# Altium schematic symbol library Passive.SchLib: 14 symbols
Pins are listed as number, name and electrical type; pins without a type are passive.

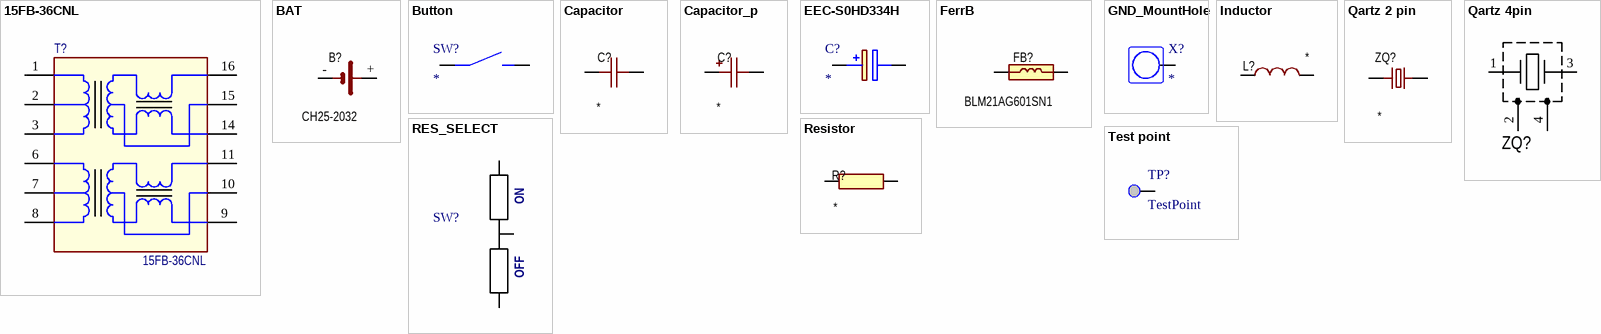
[diagram p0: symbols 15FB-36CNL to Test point]

## 15FB-36CNL
designator T?
10/100 BASE-T ETHERNET ISOLATION POE TRANSFORMER
footprint SMT-4 (10/100 BASE-T ETHERNET ISOLATION TRANSFORMER)
pins: 1 TD+, 2 CT, 3 TD-, 6 RD+, 7 CT, 8 RD-, 9 RX-, 10 CT, 11 RX+, 14 TX-, 15 CT, 16 TX+

## BAT
designator B?, comment CH25-2032
battery; Manufacturer: Comfortable Electronic; Model: CH25-2032; HelpURL: http://www.platan.ru/pdf/datasheets/comf/CH-battery-holder.pdf
footprint CH25-2032
footprint CR1220 (SMD battery holder)
footprint MS412SE-FL26E (Litium battery 4.8mm dia, 2.8mm)
pins: +, -

## Button
designator SW?
Switch Tactile OFF _ON_ Round Button; MP: any; MF: TE Connectivity; EU_RoHS_Compliance: Compliant; SnapEDA_Link: https://www.snapeda.com/parts/1571527-1/TE%20Connectivity/view-part/244428/?ref=snap; Price: None; Package: any; Availability: Unavailable; TE_purchase_URL: https://www.te.com/usa-en/product-1571527-1.html?te_bu=Cor&te_type=disp&te_campaign=seda_glo_cor-seda-global-disp-prtnr-fy19-seda-model-bom-cta_sma-317_1&elqCampaignId=32493; Value: *
footprint SW_1571527-1
pins: 1 COM, 2 COM, 3 NO, 4 NO

## Capacitor
designator C?
Capacitor; Model: *; Manufacturer: *; HelpURL: *; Package: *; Value: *
footprint C0201 (Chip Capacitor, 2-Leads, Body 0,60x0,30mm, IPC Medium Density)
footprint C0402 (Chip Capacitor, 2-Leads, Body 1,00x0,50mm, IPC Medium Density)
footprint C0603
footprint C0805
footprint C1210
footprint C1808
footprint C1206 (Chip Capacitor, 1206)
footprint C0201_octogonal (Chip Capacitor, 2-Leads, Body 0,60x0,30mm, IPC Medium Density)
pins: 1, 2

## Capacitor_p
designator C?
Capacitor_polar; Model: *; Manufacturer: *; HelpURL: *; Package: *; Value: *
footprint 6.3x11 (capacitor)
footprint 8x14 (capacitor)
footprint SIZE_B
footprint SIZE_E,D (AVX tantalum cap E, D)
footprint SMD_6.3x7.7 (aluminium)
footprint 8x14 - Horizontal (capacitor)
pins: 1, 2

## EEC-S0HD334H
designator C?
Capacitor Polarised; Manufacturer_Name: Panasonic; Manufacturer_Part_Number: EEC-S0HD334H; Datasheet Link: https://www.mouser.com/datasheet/2/315/ABC0000C84-1142239.pdf; Height: 6.5mm; Mouser Part Number: 667-EEC-S0HD334H; Mouser Price/Stock: https://www.mouser.co.uk/ProductDetail/Panasonic/EEC-S0HD334H?qs=ANJC8C65Mw7r3T%252B8s8Dhbw%3D%3D
footprint EECS0HD334H
pins: 1 +, 2 -

## FerrB
designator FB?, comment BLM21AG601SN1
Ferrite bead; Manufacturer: Murata; Model: BLM21AG601SN1; HelpURL: https://www.murata.com/en-us/api/pdfdownloadapi?cate=luNoiseSupprFilteChipFerriBead&partno=BLM21AG601SN1%23; Package: 0805
footprint FB0603
footprint FB0805
pins: 1, 2

## GND_MountHole
designator X?
Grounded Mount Hole
footprint GNDHole (GND_Hole 2.2mmx3mm)
pins: 1

## Inductor
designator L?
power inductor; Value: *
footprint B82477G4 (B82477G4 SMD power inductor)
footprint IHLP-2020BZ-01 (Inductor Vishay)
footprint IHLP-2020CZ-01 (Inductor Vishay)
footprint IHLP-1212AE-11 (Inductor Vishay)
footprint IHLP-2525BD-01 (Inductor Vishay)
footprint IHLP-3232DZ-01 (Inductor Vishay)
pins: 1, 2

## Qartz 2 pin
designator ZQ?
Кварцевый резонатор 2 pin; Model: *; Manufacturer: *; HelpURL: *; Value: *
footprint ABS05 (Quartz  SMD 1.6x1.0x0.5)
footprint ABS06W (QARTZ SMD 2.0x1.2x0.6)
footprint ABS07W (QUARTZ SMD 3.2x1.5x0.9)
footprint HC-49
footprint HC-49U
footprint HC-49SM
pins: 1, 2

## Qartz 4pin
designator ZQ?, comment 7216-2400A0610-00  (value not drawn)
Кварцевый резонатор 4 pin; Manufacturer: XTV; Value: 24 МГц; Family: Кварц; Model: 7216-2400A0610-00; Temperature: -40..85; HelpURL: https://lcsc.com/product-detail/New-Arrivals_XTY-7216-2400A0610-00_C389789.html; Case: 4-SMD 2x1,6x0.65
footprint AMB3   SMD 5.0x3.2x1.1 (Quartz  SMD 5.0x3.2x1.1)
footprint AMB10   SMD 2.5x2.0x0.52 (Quartz  SMD 2.5x2.0x0.52)
footprint AMB11   SMD 2.0x1.6x0.59 (Quartz  SMD 2.0x1.6x0.59)
footprint AMB8   SMD 3.2x2.5x0.8 (Quartz  SMD 3.2x2.5x0.8)
pins: 1, 2, 3, 4

## RES_SELECT
designator SW?  ValueOff: OFF  ValueOn: ON  (hidden comment: *)
jmp select; Model: *; Manufacturer: *; HelpURL: *; Package: *
footprint RES_SEL_0201 (Chip Resistor, 2-Leads, Body 0,60x0,30mm, IPC Medium Density)
footprint RES_SEL_0402 (Chip Resistor, 2-Leads, Body 0,98x0,50mm, IPC Medium Density)
footprint RES_SEL_ANGLE_0402 (Chip Resistor, 2-Leads, Body 0,98x0,50mm, IPC Medium Density)
pins: 1, 2, 3

## Resistor
designator R?
Resistor; Model: *; Manufacturer: *; HelpURL: *; Package: *; Value: *
footprint R0201 (Chip Resistor, 2-Leads, Body 0,60x0,30mm, IPC Medium Density)
footprint R0402 (Chip Resistor, 2-Leads, Body 0,98x0,50mm, IPC Medium Density)
footprint R0603
footprint R0805
footprint R1206
footprint R2512
footprint C0201_octogonal (Chip Capacitor, 2-Leads, Body 0,60x0,30mm, IPC Medium Density)
pins: 1, 2

## Test point
designator TP?, comment TestPoint  (no BOM)
pad test point
footprint TestPoint
pins: 1 TP